# Altium integrated library Xilinx Virtex-E.IntLib: 288 symbols (part 63 of 73)
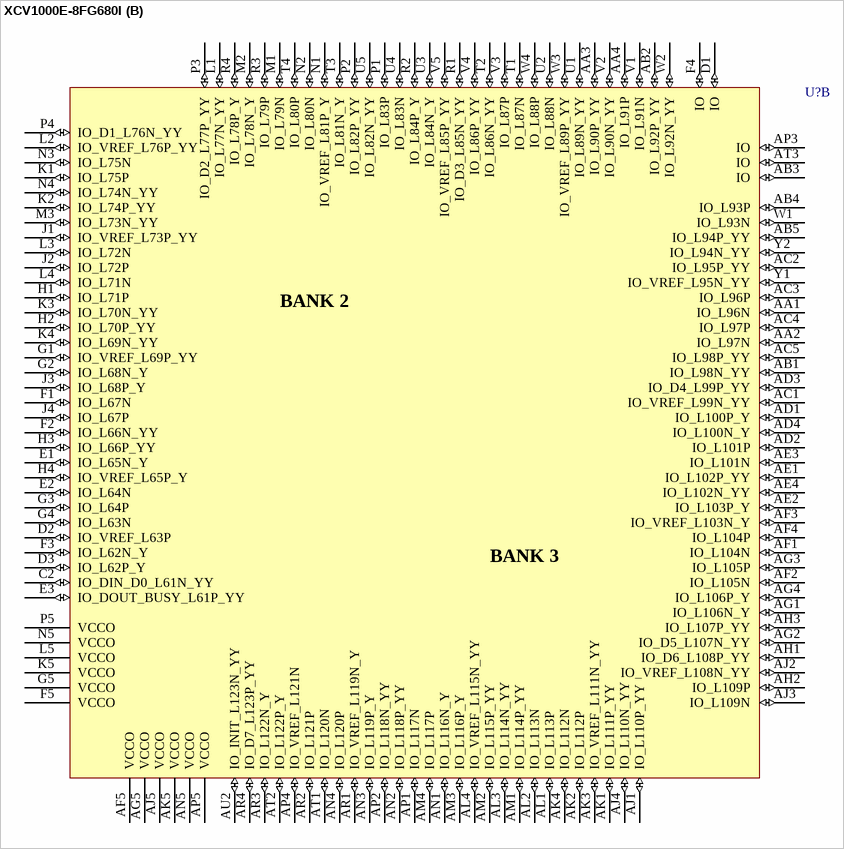
[diagram p449: symbol XCV1000E-8FG680I]

## XCV1600E-7BG560C
designator U?
Virtex-E 1.8V FPGA, 560-Ball BGA, Commercial Grade; PackageDocument: ver1.1, Apr-2001; Note: Solder pads are defined by the copper, i.e. non-soldermask defined (NSMD); Published: 19-Sep-2001; LatestRevisionDate: 17-Jul-2002; LatestRevisionNote: Re-released for DXP Platform.; DatasheetDocument: Mar-2003; PackageReference: BG560; Publisher: Altium Limited
footprint BG560 (560-Ball Metal Ball Grid Array (BG560))
3D model XCV1600E-BG560 (560-Ball Metal Ball Grid Array (BG560))
signal-integrity model XCV1600E_BG560 (Virtex-E)
part A pins: A2 IO_CS_L44P_YY (io), A3 IO (io), A4 IO_L42N_YY (io), A5 IO_L40N_Y (io), A6 IO_VREF_L38P_YY (io), A8 IO_L36N_Y (io), A9 IO_L34P_Y (io), A10 VCCO (power), A11 IO_L31N_Y (io), A13 IO_L28N_Y (io), A15 IO_L25N_Y (io), A16 VCCO (power), A17 GCK3 (in), A19 IO_VREF_L20N_Y (io), A22 VCCO (power), A23 IO_L13N_YY (io), A25 IO_L10P_YY (io), A26 VCCO (power), A27 IO (io), A28 IO_L6P_Y (io), A30 VCCO (power), A31 IO_L1P_YY (io), B4 IO_L42P_YY (io), B5 IO_L40P_Y (io), B7 IO_L38N_YY (io), B8 IO_L36P_Y (io), B10 IO_L33N_YY (io), B11 IO_L32N_YY (io), B13 VCCO (power), B16 IO_L23N_Y (io), B17 IO_L22P_Y (io), B19 VCCO (power), B20 IO_L18N_Y (io), B21 IO_L16N_YY (io), B22 IO_L14P_YY (io), B24 IO_L11P_YY (io), B25 IO (io), B26 IO_L8P_Y (io), B29 IO_L4P_YY (io), B30 IO_L3N_Y (io), B32 VCCO (power), C3 VCCO (power), C5 IO_L43N_Y (io), C6 IO_L41N_YY (io), C7 IO_L39N_YY (io), C8 IO_L37P_Y (io), C9 IO_L35N_Y (io), C10 IO_L34N_Y (io), C11 IO_L32P_YY (io), C12 IO_L30N_YY (io), C13 IO_L29N_YY (io), C14 IO_L27N_YY (io), C15 IO_L25P_Y (io), C16 IO_L24P_Y (io), C17 IO_VREF_L22N_Y (io), C18 IO_LVDS_DLL_L21N (io), C19 IO_L19P_Y (io), C20 IO_L17P_YY (io), C21 IO_L15P_Y (io), C23 IO_L12P_Y (io), C25 IO_L9N_Y (io), C26 IO_L7P_Y (io), C27 IO_L5P_YY (io), C28 IO (io), C29 IO_L2P_YY (io), C30 IO (io), D6 IO_WRITE_L44N_YY (io), D7 IO_VREF_L41P_YY (io), D8 IO_L39P_YY (io), D9 IO (io), D10 IO_VREF_L35P_Y (io), D11 IO_VREF_L33P_YY (io), D12 IO_L31P_Y (io), D13 IO_VREF_L29P_YY (io), D14 IO_L27P_YY (io), D15 IO_L26N_YY (io), D16 IO_VREF_L23P_Y (io), D17 GCK2 (in), D18 IO_L20P_Y (io), D19 IO_L19N_Y (io), D20 IO_VREF_L17N_YY (io), D21 IO_L15N_Y (io), D22 IO_L13P_YY (io), D23 IO_L11N_YY (io), D24 IO_L9P_Y (io), D25 IO_L7N_Y (io), D26 IO_VREF_L5N_YY (io), D27 IO_L3P_Y (io), D28 IO_L1N_YY (io), D29 IO_VREF_L0P (io), D30 IO (io), E5 VCCO (power), E7 IO_VREF_L43P_Y (io), E8 IO (io), E10 IO_L37N_Y (io), E11 IO (io), E13 IO_L30P_YY (io), E14 IO_L28P_Y (io), E15 IO_VREF_L26P_YY (io), E16 IO_L24N_Y (io), E17 IO_LVDS_DLL_L21P (io), E18 IO_VREF (io), E19 IO_L18P_Y (io), E20 IO_L16P_YY (io), E21 IO_VREF_L14N_YY (io), E22 IO_L12N_Y (io), E23 IO_VREF_L10N_YY (io), E24 IO_VREF_L8N_Y (io), E25 IO_L6N_Y (io), E26 IO_L4N_YY (io), E27 IO_VREF_L2N_YY (io), E28 IO_L0N (io)
part B pins: AA1 IO_L75P_Y (io), AA2 VCCO (power), AA3 IO_L76P_Y (io), AA4 IO_VREF_L76N_Y (io), AA5 IO_L77N_Y (io), AB3 IO_L77P_Y (io), AB4 IO_L78N_Y (io), AB5 IO_D5_L79N_YY (io), AC1 IO_L78P_Y (io), AC3 IO_L79P_YY (io), AC4 IO_D6_L80P_YY (io), AC5 IO_L81N_Y (io), AD1 VCCO (power), AD3 IO_VREF_L80N_YY (io), AD4 IO_L82P_Y (io), AD5 IO_L83N_Y (io), AE1 IO_L81P_Y (io), AE3 IO (io), AE4 IO_L84N_Y (io), AE5 IO_VREF_L85N_YY (io), AF1 IO_VREF_L82N_Y (io), AF2 IO_L83P_Y (io), AF3 IO (io), AF4 IO_L86P_Y (io), AF5 IO_L87N_Y (io), AG2 IO_L84P_Y (io), AG4 IO_L88P_Y (io), AG5 IO_L89N_Y (io), AH1 IO_L85P_YY (io), AH3 IO (io), AH4 IO_VREF_L90N_Y (io), AH5 IO_INIT_L91N_YY (io), AJ1 IO_L86N_Y (io), AJ2 IO_L87P_Y (io), AJ3 IO_L89P_Y (io), AJ4 IO_D7_L91P_YY (io), AK1 VCCO (power), AK2 IO_VREF_L88N_Y (io), AK3 IO (io), AL1 IO_L90P_Y (io), AL2 VCCO (power), B2 VCCO (power), B3 IO_VREF_L46N_Y (io), C1 IO_L47N_Y (io), D1 VCCO (power), D2 IO_L49P_Y (io), D3 IO (io), D4 IO_DOUT_BUSY_L45P_YY (io), E2 IO_L50N_Y (io), E3 IO_L48N_Y (io), E4 IO_DIN_D0_L45N_YY (io), F1 IO_L52N_Y (io), F3 IO (io), F4 IO_L47P_Y (io), F5 IO_L46P_Y (io), G1 IO (io), G3 IO_L51N_YY (io), G4 IO_L49N_Y (io), G5 IO_VREF_L48P_Y (io), H1 VCCO (power), H2 IO_L54N_Y (io), H3 IO_L53N_Y (io), H4 IO_VREF_L51P_YY (io), H5 IO_L50P_Y (io), J2 IO (io), J3 IO_L55P_Y (io), J4 IO_L53P_Y (io), J5 IO_L52P_Y (io), K2 IO_L57N_YY (io), K3 IO_D1_L56N_YY (io), K4 IO_L55N_Y (io), K5 IO_VREF_L54P_Y (io), L1 IO_L59P_Y (io), L3 IO_L58N_Y (io), L4 IO_D2_L57P_YY (io), L5 IO_VREF_L56P_YY (io), M1 VCCO (power), M2 IO_L60N_Y (io), M4 IO_L59N_Y (io), M5 IO_L58P_Y (io), N2 IO_L62P_Y (io), N3 IO_L61N_Y (io), N4 IO_L61P_Y (io), N5 IO_VREF_L60P_Y (io), P2 IO_L64P_Y (io), P3 IO_D3_L63N_YY (io), P4 IO_VREF_L63P_YY (io), P5 IO_L62N_Y (io), R1 IO_VREF_L66P_Y (io), R2 VCCO (power), R3 IO_L65N_Y (io), R4 IO_L65P_Y (io), R5 IO_L64N_Y (io), T2 IO_L68P_YY (io), T3 IO_VREF_L67N_Y (io), T4 IO_L66N_Y (io), T5 IO_L67P_Y (io), U1 IO_VREF_L69P_Y (io), U2 IO_L69N_Y (io), U3 IO_L68N_YY (io), U4 IO (io), V1 VCCO (power), V2 IO_L70P_Y (io), V3 IO_L71N_Y (io), V4 IO_VREF_L70N_Y (io), V5 IO_L71P_Y (io), W1 IO_L72P_Y (io), W3 IO_L72N_Y (io), W4 IO_D4_L73P_YY (io), W5 IO_VREF_L73N_YY (io), Y3 IO_L74P_Y (io), Y4 IO_L74N_Y (io), Y5 IO_L75N_Y (io)
part C pins: AJ6 IO_L92N_YY (io), AJ7 IO_L94N_YY (io), AJ8 IO (io), AJ9 IO_L98N_YY (io), AJ10 IO_L100N_Y (io), AJ11 IO (io), AJ12 IO_L104N_YY (io), AJ14 IO_L109P_YY (io), AJ15 IO_L111P_Y (io), AJ16 IO_L113N_Y (io), AJ17 GCK1 (in), AJ18 IO_VREF_L116N_Y (io), AJ19 IO_L119P_YY (io), AJ20 IO_L121P_Y (io), AJ21 IO_L123P_YY (io), AJ22 IO_L125N_YY (io), AJ23 IO_L127N_Y (io), AJ24 IO_L129N_Y (io), AJ25 IO_VREF_L131N_YY (io), AJ26 IO_L133N_Y (io), AJ27 IO_L135N_YY (io), AK5 IO_L93P_Y (io), AK6 IO (io), AK7 IO_L96P_Y (io), AK9 IO (io), AK10 IO_L102P_Y (io), AK12 IO_L105N_Y (io), AK13 IO_VREF_L107P_YY (io), AK14 IO_L109N_YY (io), AK15 IO_L111N_Y (io), AK16 IO_L114P_Y (io), AK18 IO_L116P_Y (io), AK19 IO_L118P_Y (io), AK21 IO_L122P_YY (io), AK22 IO_L124P_Y (io), AK23 IO_L126P_YY (io), AK24 IO_L128P_Y (io), AK25 IO_L130N_Y (io), AK26 IO_L132P_YY (io), AK27 IO_L134P_YY (io), AK28 IO_VREF_L136N_Y (io), AL4 IO_L92P_YY (io), AL5 IO_L94P_YY (io), AL6 IO_L96N_Y (io), AL7 IO_VREF_L98P_YY (io), AL8 IO_L99N_Y (io), AL9 IO_VREF_L101P_Y (io), AL10 IO_VREF_L103P_YY (io), AL11 IO_L104P_YY (io), AL12 IO_L106P_YY (io), AL13 IO_L107N_YY (io), AL15 IO_L112P_Y (io), AL16 IO_VREF_L113P_Y (io), AL17 GCK0 (in), AL18 IO_VREF (io), AL19 IO_L117N_Y (io), AL20 IO_VREF_L119N_YY (io), AL21 IO_L120N_YY (io), AL23 IO_L125P_YY (io), AL24 IO_VREF_L126N_YY (io), AL25 IO (io), AL26 IO_L130P_Y (io), AL28 IO (io), AL29 IO_VREF_L134N_YY (io), AL30 IO (io), AL31 VCCO (power), AM2 VCCO (power), AM4 IO_VREF_L95P_YY (io), AM5 IO_L95N_YY (io), AM6 IO_L97P_YY (io), AM8 IO_L100P_Y (io), AM9 IO_L101N_Y (io), AM10 IO_L103N_YY (io), AM12 IO_L106N_YY (io), AM13 IO_L108P_Y (io), AM14 IO_VREF_L110P_YY (io), AM15 VCCO (power), AM16 IO_L112N_Y (io), AM17 IO_LVDS_DLL_L115P (io), AM18 IO_LVDS_DLL_L115N (io), AM20 IO_L118N_Y (io), AM21 VCCO (power), AM22 IO_L121N_Y (io), AM23 IO_L123N_YY (io), AM24 IO_L124N_Y (io), AM26 IO_VREF_L128N_Y (io), AM27 IO_L129P_Y (io), AM29 IO_L132N_YY (io), AM30 IO_L133P_Y (io), AM31 IO_L136P_Y (io), AN3 IO_VREF_L93N_Y (io), AN4 VCCO (power), AN6 IO_L97N_YY (io), AN7 IO_L99P_Y (io), AN8 VCCO (power), AN9 IO_L102N_Y (io), AN11 IO_L105P_Y (io), AN12 VCCO (power), AN13 IO_L108N_Y (io), AN15 IO_L110N_YY (io), AN17 IO_VREF_L114N_Y (io), AN18 VCCO (power), AN19 IO_L117P_Y (io), AN21 IO_L120P_YY (io), AN23 IO_VREF_L122N_YY (io), AN24 VCCO (power), AN26 IO_L127P_Y (io), AN28 IO (io), AN29 IO_L131P_YY (io), AN30 VCCO (power), AN31 IO_L135P_YY (io)
part D pins: AA29 IO_L151P_Y (io), AA30 IO_VREF_L152N_Y (io), AA31 IO_L152P_Y (io), AA32 IO_L153N_Y (io), AA33 IO_L154N_Y (io), AB29 IO_L149N_YY (io), AB30 IO_L150P_Y (io), AB31 IO_L151N_Y (io), AB33 VCCO (power), AC29 IO_L147P_Y (io), AC30 IO_L148P_YY (io), AC31 IO_L149P_YY (io), AC33 IO_L150N_Y (io), AD29 IO_L145N_Y (io), AD30 IO_L146P_Y (io), AD31 IO_VREF_L148N_YY (io), AE29 IO_VREF_L143N_YY (io), AE30 IO_L144P_Y (io), AE31 IO_VREF_L146N_Y (io), AE32 IO_L147N_Y (io), AE33 IO (io), AF29 IO_L141P_Y (io), AF30 IO_L142P_Y (io), AF31 IO (io), AF32 IO_L145P_Y (io), AF33 VCCO (power), AG29 IO_L139N_Y (io), AG30 IO_L140P_Y (io), AG33 IO_L144N_Y (io), AH29 IO_L137N_YY (io), AH30 IO_VREF_L138P_Y (io), AH31 IO_L141N_Y (io), AH32 IO_L142N_Y (io), AH33 IO_L143P_YY (io), AJ30 IO_L137P_YY (io), AJ31 IO_L139P_Y (io), AJ32 IO (io), AK31 IO_L138N_Y (io), AK32 IO_VREF_L140N_Y (io), AK33 VCCO (power), AL33 IO (io), AM32 VCCO (power), C32 VCCO (power), C33 IO_L181P_Y (io), D31 IO_VREF_L182P_Y (io), D32 IO_L180N_Y (io), D33 VCCO (power), E30 IO (io), E31 IO_VREF_L180P_Y (io), E32 IO_L178P_Y (io), E33 IO_L178N_Y (io), F29 IO (io), F30 IO_L182N_Y (io), F31 IO_L179P_Y (io), F33 IO (io), G29 IO_L181N_Y (io), G30 IO (io), G31 IO_VREF_L177P_YY (io), G32 IO_L176P_Y (io), H29 IO_L179N_Y (io), H31 IO_L175P_Y (io), H32 IO_VREF_L174P_Y (io), H33 IO_L173P_Y (io), J29 IO_L177N_YY (io), J30 IO_L176N_Y (io), J31 IO_L174N_Y (io), J33 IO_L171P_YY (io), K29 IO_L175N_Y (io), K30 IO (io), K31 IO_VREF_L172P_YY (io), K33 VCCO (power), L29 IO_L173N_Y (io), L30 IO_L172N_YY (io), L31 IO_L170P_Y (io), L32 IO_L169P_Y (io), L33 IO_VREF_L168P_Y (io), M29 IO_L171N_YY (io), M30 IO_L170N_Y (io), M31 IO_L169N_Y (io), M32 IO_L167N_Y (io), N30 IO_L168N_Y (io), N31 IO_L167P_Y (io), N32 VCCO (power), P29 IO_L166P_Y (io), P30 IO_L166N_Y (io), P31 IO_VREF_L165P_YY (io), P32 IO_L165N_YY (io), R29 IO_L164P_Y (io), R30 IO_L164N_Y (io), R31 IO_L163P_Y (io), R33 IO_L163N_Y (io), T29 IO_L162N_Y (io), T30 IO_L161P_Y (io), T31 IO_VREF_L162P_Y (io), T32 IO_VREF_L161N_Y (io), T33 VCCO (power), U29 IO (io), U31 IO_L160N_YY (io), U32 IO_L160P_YY (io), U33 IO_VREF_L159P_Y (io), V29 IO_VREF_L158N_Y (io), V30 IO_L157P_Y (io), V31 IO_L158P_Y (io), V32 IO_L159N_Y (io), W29 IO_L155P_YY (io), W30 IO_L156N_Y (io), W31 IO_L156P_Y (io), W32 VCCO (power), W33 IO_L157N_Y (io), Y29 IO_L153P_Y (io), Y30 IO_L154P_Y (io), Y32 IO_VREF_L155N_YY (io)
part E pins: A1 GND (power), A7 GND (power), A12 GND (power), A14 GND (power), A18 GND (power), A20 GND (power), A21 VCCINT (power), A24 GND (power), A29 GND (power), A32 GND (power), A33 GND (power), AB1 GND (power), AB2 VCCINT (power), AB32 VCCINT (power), AC2 NC, AC32 GND (power), AD2 VCCINT (power), AD32 VCCINT (power), AD33 GND (power), AE2 GND (power), AG1 GND (power), AG3 VCCINT (power), AG31 VCCINT (power), AG32 GND (power), AH2 GND (power), AJ5 DONE (io), AJ13 VCCINT (power), AJ28 DXP, AJ29 M0 (in), AJ33 GND (power), AK4 NC, AK8 VCCINT (power), AK11 VCCINT (power), AK17 VCCINT (power), AK20 VCCINT (power), AK29 DXN, AK30 M1 (in), AL3 NC, AL14 VCCINT (power), AL22 VCCINT (power), AL27 VCCINT (power), AL32 GND (power), AM1 PROGRAM (in), AM3 GND (power), AM7 GND (power), AM11 GND (power), AM19 GND (power), AM25 GND (power), AM28 GND (power), AM33 GND (power), AN1 GND (power), AN2 GND (power), AN5 GND (power), AN10 GND (power), AN14 GND (power), AN16 GND (power), AN20 GND (power), AN22 GND (power), AN25 VCCINT (power), AN27 GND (power), AN32 M2 (in), AN33 GND (power), B1 GND (power), B6 GND (power), B9 GND (power), B12 VCCINT (power), B14 VCCINT (power), B15 GND (power), B18 VCCINT (power), B23 GND (power), B27 GND (power), B28 VCCINT (power), B31 GND (power), B33 TMS (in), C2 GND (power), C4 CCLK (io), C22 VCCINT (power), C24 VCCINT (power), C31 NC, D5 TDI (in), E1 GND (power), E6 TDO (out), E9 VCCINT (power), E12 VCCINT (power), E29 TCK (in), F2 VCCINT (power), F32 GND (power), G2 GND (power), G33 GND (power), H30 VCCINT (power), J1 VCCINT (power), J32 GND (power), K1 GND (power), K32 VCCINT (power), L2 GND (power), M3 VCCINT (power), M33 GND (power), N1 VCCINT (power), N29 VCCINT (power), N33 VCCINT (power), P1 GND (power), P33 GND (power), R32 GND (power), T1 GND (power), U5 VCCINT (power), U30 VCCINT (power), V33 GND (power), W2 GND (power), Y1 GND (power), Y2 VCCINT (power), Y31 VCCINT (power), Y33 GND (power)
part A text: BANK 0; BANK 1
part B text: BANK 2; BANK 3
part C text: BANK 4; BANK 5
part D text: BANK 6; BANK 7

## XCV1600E-7BG560I
designator U?
Virtex-E 1.8V FPGA, 560-Ball BGA, Industrial Grade; PackageDocument: ver1.1, Apr-2001; Note: Solder pads are defined by the copper, i.e. non-soldermask defined (NSMD); Published: 19-Sep-2001; LatestRevisionDate: 17-Jul-2002; LatestRevisionNote: Re-released for DXP Platform.; DatasheetDocument: Mar-2003; PackageReference: BG560; Publisher: Altium Limited
footprint BG560 (560-Ball Metal Ball Grid Array (BG560))
3D model XCV1600E-BG560 (560-Ball Metal Ball Grid Array (BG560))
signal-integrity model XCV1600E_BG560 (Virtex-E)
part A pins: A2 IO_CS_L44P_YY (io), A3 IO (io), A4 IO_L42N_YY (io), A5 IO_L40N_Y (io), A6 IO_VREF_L38P_YY (io), A8 IO_L36N_Y (io), A9 IO_L34P_Y (io), A10 VCCO (power), A11 IO_L31N_Y (io), A13 IO_L28N_Y (io), A15 IO_L25N_Y (io), A16 VCCO (power), A17 GCK3 (in), A19 IO_VREF_L20N_Y (io), A22 VCCO (power), A23 IO_L13N_YY (io), A25 IO_L10P_YY (io), A26 VCCO (power), A27 IO (io), A28 IO_L6P_Y (io), A30 VCCO (power), A31 IO_L1P_YY (io), B4 IO_L42P_YY (io), B5 IO_L40P_Y (io), B7 IO_L38N_YY (io), B8 IO_L36P_Y (io), B10 IO_L33N_YY (io), B11 IO_L32N_YY (io), B13 VCCO (power), B16 IO_L23N_Y (io), B17 IO_L22P_Y (io), B19 VCCO (power), B20 IO_L18N_Y (io), B21 IO_L16N_YY (io), B22 IO_L14P_YY (io), B24 IO_L11P_YY (io), B25 IO (io), B26 IO_L8P_Y (io), B29 IO_L4P_YY (io), B30 IO_L3N_Y (io), B32 VCCO (power), C3 VCCO (power), C5 IO_L43N_Y (io), C6 IO_L41N_YY (io), C7 IO_L39N_YY (io), C8 IO_L37P_Y (io), C9 IO_L35N_Y (io), C10 IO_L34N_Y (io), C11 IO_L32P_YY (io), C12 IO_L30N_YY (io), C13 IO_L29N_YY (io), C14 IO_L27N_YY (io), C15 IO_L25P_Y (io), C16 IO_L24P_Y (io), C17 IO_VREF_L22N_Y (io), C18 IO_LVDS_DLL_L21N (io), C19 IO_L19P_Y (io), C20 IO_L17P_YY (io), C21 IO_L15P_Y (io), C23 IO_L12P_Y (io), C25 IO_L9N_Y (io), C26 IO_L7P_Y (io), C27 IO_L5P_YY (io), C28 IO (io), C29 IO_L2P_YY (io), C30 IO (io), D6 IO_WRITE_L44N_YY (io), D7 IO_VREF_L41P_YY (io), D8 IO_L39P_YY (io), D9 IO (io), D10 IO_VREF_L35P_Y (io), D11 IO_VREF_L33P_YY (io), D12 IO_L31P_Y (io), D13 IO_VREF_L29P_YY (io), D14 IO_L27P_YY (io), D15 IO_L26N_YY (io), D16 IO_VREF_L23P_Y (io), D17 GCK2 (in), D18 IO_L20P_Y (io), D19 IO_L19N_Y (io), D20 IO_VREF_L17N_YY (io), D21 IO_L15N_Y (io), D22 IO_L13P_YY (io), D23 IO_L11N_YY (io), D24 IO_L9P_Y (io), D25 IO_L7N_Y (io), D26 IO_VREF_L5N_YY (io), D27 IO_L3P_Y (io), D28 IO_L1N_YY (io), D29 IO_VREF_L0P (io), D30 IO (io), E5 VCCO (power), E7 IO_VREF_L43P_Y (io), E8 IO (io), E10 IO_L37N_Y (io), E11 IO (io), E13 IO_L30P_YY (io), E14 IO_L28P_Y (io), E15 IO_VREF_L26P_YY (io), E16 IO_L24N_Y (io), E17 IO_LVDS_DLL_L21P (io), E18 IO_VREF (io), E19 IO_L18P_Y (io), E20 IO_L16P_YY (io), E21 IO_VREF_L14N_YY (io), E22 IO_L12N_Y (io), E23 IO_VREF_L10N_YY (io), E24 IO_VREF_L8N_Y (io), E25 IO_L6N_Y (io), E26 IO_L4N_YY (io), E27 IO_VREF_L2N_YY (io), E28 IO_L0N (io)
part B pins: AA1 IO_L75P_Y (io), AA2 VCCO (power), AA3 IO_L76P_Y (io), AA4 IO_VREF_L76N_Y (io), AA5 IO_L77N_Y (io), AB3 IO_L77P_Y (io), AB4 IO_L78N_Y (io), AB5 IO_D5_L79N_YY (io), AC1 IO_L78P_Y (io), AC3 IO_L79P_YY (io), AC4 IO_D6_L80P_YY (io), AC5 IO_L81N_Y (io), AD1 VCCO (power), AD3 IO_VREF_L80N_YY (io), AD4 IO_L82P_Y (io), AD5 IO_L83N_Y (io), AE1 IO_L81P_Y (io), AE3 IO (io), AE4 IO_L84N_Y (io), AE5 IO_VREF_L85N_YY (io), AF1 IO_VREF_L82N_Y (io), AF2 IO_L83P_Y (io), AF3 IO (io), AF4 IO_L86P_Y (io), AF5 IO_L87N_Y (io), AG2 IO_L84P_Y (io), AG4 IO_L88P_Y (io), AG5 IO_L89N_Y (io), AH1 IO_L85P_YY (io), AH3 IO (io), AH4 IO_VREF_L90N_Y (io), AH5 IO_INIT_L91N_YY (io), AJ1 IO_L86N_Y (io), AJ2 IO_L87P_Y (io), AJ3 IO_L89P_Y (io), AJ4 IO_D7_L91P_YY (io), AK1 VCCO (power), AK2 IO_VREF_L88N_Y (io), AK3 IO (io), AL1 IO_L90P_Y (io), AL2 VCCO (power), B2 VCCO (power), B3 IO_VREF_L46N_Y (io), C1 IO_L47N_Y (io), D1 VCCO (power), D2 IO_L49P_Y (io), D3 IO (io), D4 IO_DOUT_BUSY_L45P_YY (io), E2 IO_L50N_Y (io), E3 IO_L48N_Y (io), E4 IO_DIN_D0_L45N_YY (io), F1 IO_L52N_Y (io), F3 IO (io), F4 IO_L47P_Y (io), F5 IO_L46P_Y (io), G1 IO (io), G3 IO_L51N_YY (io), G4 IO_L49N_Y (io), G5 IO_VREF_L48P_Y (io), H1 VCCO (power), H2 IO_L54N_Y (io), H3 IO_L53N_Y (io), H4 IO_VREF_L51P_YY (io), H5 IO_L50P_Y (io), J2 IO (io), J3 IO_L55P_Y (io), J4 IO_L53P_Y (io), J5 IO_L52P_Y (io), K2 IO_L57N_YY (io), K3 IO_D1_L56N_YY (io), K4 IO_L55N_Y (io), K5 IO_VREF_L54P_Y (io), L1 IO_L59P_Y (io), L3 IO_L58N_Y (io), L4 IO_D2_L57P_YY (io), L5 IO_VREF_L56P_YY (io), M1 VCCO (power), M2 IO_L60N_Y (io), M4 IO_L59N_Y (io), M5 IO_L58P_Y (io), N2 IO_L62P_Y (io), N3 IO_L61N_Y (io), N4 IO_L61P_Y (io), N5 IO_VREF_L60P_Y (io), P2 IO_L64P_Y (io), P3 IO_D3_L63N_YY (io), P4 IO_VREF_L63P_YY (io), P5 IO_L62N_Y (io), R1 IO_VREF_L66P_Y (io), R2 VCCO (power), R3 IO_L65N_Y (io), R4 IO_L65P_Y (io), R5 IO_L64N_Y (io), T2 IO_L68P_YY (io), T3 IO_VREF_L67N_Y (io), T4 IO_L66N_Y (io), T5 IO_L67P_Y (io), U1 IO_VREF_L69P_Y (io), U2 IO_L69N_Y (io), U3 IO_L68N_YY (io), U4 IO (io), V1 VCCO (power), V2 IO_L70P_Y (io), V3 IO_L71N_Y (io), V4 IO_VREF_L70N_Y (io), V5 IO_L71P_Y (io), W1 IO_L72P_Y (io), W3 IO_L72N_Y (io), W4 IO_D4_L73P_YY (io), W5 IO_VREF_L73N_YY (io), Y3 IO_L74P_Y (io), Y4 IO_L74N_Y (io), Y5 IO_L75N_Y (io)
part C pins: AJ6 IO_L92N_YY (io), AJ7 IO_L94N_YY (io), AJ8 IO (io), AJ9 IO_L98N_YY (io), AJ10 IO_L100N_Y (io), AJ11 IO (io), AJ12 IO_L104N_YY (io), AJ14 IO_L109P_YY (io), AJ15 IO_L111P_Y (io), AJ16 IO_L113N_Y (io), AJ17 GCK1 (in), AJ18 IO_VREF_L116N_Y (io), AJ19 IO_L119P_YY (io), AJ20 IO_L121P_Y (io), AJ21 IO_L123P_YY (io), AJ22 IO_L125N_YY (io), AJ23 IO_L127N_Y (io), AJ24 IO_L129N_Y (io), AJ25 IO_VREF_L131N_YY (io), AJ26 IO_L133N_Y (io), AJ27 IO_L135N_YY (io), AK5 IO_L93P_Y (io), AK6 IO (io), AK7 IO_L96P_Y (io), AK9 IO (io), AK10 IO_L102P_Y (io), AK12 IO_L105N_Y (io), AK13 IO_VREF_L107P_YY (io), AK14 IO_L109N_YY (io), AK15 IO_L111N_Y (io), AK16 IO_L114P_Y (io), AK18 IO_L116P_Y (io), AK19 IO_L118P_Y (io), AK21 IO_L122P_YY (io), AK22 IO_L124P_Y (io), AK23 IO_L126P_YY (io), AK24 IO_L128P_Y (io), AK25 IO_L130N_Y (io), AK26 IO_L132P_YY (io), AK27 IO_L134P_YY (io), AK28 IO_VREF_L136N_Y (io), AL4 IO_L92P_YY (io), AL5 IO_L94P_YY (io), AL6 IO_L96N_Y (io), AL7 IO_VREF_L98P_YY (io), AL8 IO_L99N_Y (io), AL9 IO_VREF_L101P_Y (io), AL10 IO_VREF_L103P_YY (io), AL11 IO_L104P_YY (io), AL12 IO_L106P_YY (io), AL13 IO_L107N_YY (io), AL15 IO_L112P_Y (io), AL16 IO_VREF_L113P_Y (io), AL17 GCK0 (in), AL18 IO_VREF (io), AL19 IO_L117N_Y (io), AL20 IO_VREF_L119N_YY (io), AL21 IO_L120N_YY (io), AL23 IO_L125P_YY (io), AL24 IO_VREF_L126N_YY (io), AL25 IO (io), AL26 IO_L130P_Y (io), AL28 IO (io), AL29 IO_VREF_L134N_YY (io), AL30 IO (io), AL31 VCCO (power), AM2 VCCO (power), AM4 IO_VREF_L95P_YY (io), AM5 IO_L95N_YY (io), AM6 IO_L97P_YY (io), AM8 IO_L100P_Y (io), AM9 IO_L101N_Y (io), AM10 IO_L103N_YY (io), AM12 IO_L106N_YY (io), AM13 IO_L108P_Y (io), AM14 IO_VREF_L110P_YY (io), AM15 VCCO (power), AM16 IO_L112N_Y (io), AM17 IO_LVDS_DLL_L115P (io), AM18 IO_LVDS_DLL_L115N (io), AM20 IO_L118N_Y (io), AM21 VCCO (power), AM22 IO_L121N_Y (io), AM23 IO_L123N_YY (io), AM24 IO_L124N_Y (io), AM26 IO_VREF_L128N_Y (io), AM27 IO_L129P_Y (io), AM29 IO_L132N_YY (io), AM30 IO_L133P_Y (io), AM31 IO_L136P_Y (io), AN3 IO_VREF_L93N_Y (io), AN4 VCCO (power), AN6 IO_L97N_YY (io), AN7 IO_L99P_Y (io), AN8 VCCO (power), AN9 IO_L102N_Y (io), AN11 IO_L105P_Y (io), AN12 VCCO (power), AN13 IO_L108N_Y (io), AN15 IO_L110N_YY (io), AN17 IO_VREF_L114N_Y (io), AN18 VCCO (power), AN19 IO_L117P_Y (io), AN21 IO_L120P_YY (io), AN23 IO_VREF_L122N_YY (io), AN24 VCCO (power), AN26 IO_L127P_Y (io), AN28 IO (io), AN29 IO_L131P_YY (io), AN30 VCCO (power), AN31 IO_L135P_YY (io)
part D pins: AA29 IO_L151P_Y (io), AA30 IO_VREF_L152N_Y (io), AA31 IO_L152P_Y (io), AA32 IO_L153N_Y (io), AA33 IO_L154N_Y (io), AB29 IO_L149N_YY (io), AB30 IO_L150P_Y (io), AB31 IO_L151N_Y (io), AB33 VCCO (power), AC29 IO_L147P_Y (io), AC30 IO_L148P_YY (io), AC31 IO_L149P_YY (io), AC33 IO_L150N_Y (io), AD29 IO_L145N_Y (io), AD30 IO_L146P_Y (io), AD31 IO_VREF_L148N_YY (io), AE29 IO_VREF_L143N_YY (io), AE30 IO_L144P_Y (io), AE31 IO_VREF_L146N_Y (io), AE32 IO_L147N_Y (io), AE33 IO (io), AF29 IO_L141P_Y (io), AF30 IO_L142P_Y (io), AF31 IO (io), AF32 IO_L145P_Y (io), AF33 VCCO (power), AG29 IO_L139N_Y (io), AG30 IO_L140P_Y (io), AG33 IO_L144N_Y (io), AH29 IO_L137N_YY (io), AH30 IO_VREF_L138P_Y (io), AH31 IO_L141N_Y (io), AH32 IO_L142N_Y (io), AH33 IO_L143P_YY (io), AJ30 IO_L137P_YY (io), AJ31 IO_L139P_Y (io), AJ32 IO (io), AK31 IO_L138N_Y (io), AK32 IO_VREF_L140N_Y (io), AK33 VCCO (power), AL33 IO (io), AM32 VCCO (power), C32 VCCO (power), C33 IO_L181P_Y (io), D31 IO_VREF_L182P_Y (io), D32 IO_L180N_Y (io), D33 VCCO (power), E30 IO (io), E31 IO_VREF_L180P_Y (io), E32 IO_L178P_Y (io), E33 IO_L178N_Y (io), F29 IO (io), F30 IO_L182N_Y (io), F31 IO_L179P_Y (io), F33 IO (io), G29 IO_L181N_Y (io), G30 IO (io), G31 IO_VREF_L177P_YY (io), G32 IO_L176P_Y (io), H29 IO_L179N_Y (io), H31 IO_L175P_Y (io), H32 IO_VREF_L174P_Y (io), H33 IO_L173P_Y (io), J29 IO_L177N_YY (io), J30 IO_L176N_Y (io), J31 IO_L174N_Y (io), J33 IO_L171P_YY (io), K29 IO_L175N_Y (io), K30 IO (io), K31 IO_VREF_L172P_YY (io), K33 VCCO (power), L29 IO_L173N_Y (io), L30 IO_L172N_YY (io), L31 IO_L170P_Y (io), L32 IO_L169P_Y (io), L33 IO_VREF_L168P_Y (io), M29 IO_L171N_YY (io), M30 IO_L170N_Y (io), M31 IO_L169N_Y (io), M32 IO_L167N_Y (io), N30 IO_L168N_Y (io), N31 IO_L167P_Y (io), N32 VCCO (power), P29 IO_L166P_Y (io), P30 IO_L166N_Y (io), P31 IO_VREF_L165P_YY (io), P32 IO_L165N_YY (io), R29 IO_L164P_Y (io), R30 IO_L164N_Y (io), R31 IO_L163P_Y (io), R33 IO_L163N_Y (io), T29 IO_L162N_Y (io), T30 IO_L161P_Y (io), T31 IO_VREF_L162P_Y (io), T32 IO_VREF_L161N_Y (io), T33 VCCO (power), U29 IO (io), U31 IO_L160N_YY (io), U32 IO_L160P_YY (io), U33 IO_VREF_L159P_Y (io), V29 IO_VREF_L158N_Y (io), V30 IO_L157P_Y (io), V31 IO_L158P_Y (io), V32 IO_L159N_Y (io), W29 IO_L155P_YY (io), W30 IO_L156N_Y (io), W31 IO_L156P_Y (io), W32 VCCO (power), W33 IO_L157N_Y (io), Y29 IO_L153P_Y (io), Y30 IO_L154P_Y (io), Y32 IO_VREF_L155N_YY (io)
part E pins: A1 GND (power), A7 GND (power), A12 GND (power), A14 GND (power), A18 GND (power), A20 GND (power), A21 VCCINT (power), A24 GND (power), A29 GND (power), A32 GND (power), A33 GND (power), AB1 GND (power), AB2 VCCINT (power), AB32 VCCINT (power), AC2 NC, AC32 GND (power), AD2 VCCINT (power), AD32 VCCINT (power), AD33 GND (power), AE2 GND (power), AG1 GND (power), AG3 VCCINT (power), AG31 VCCINT (power), AG32 GND (power), AH2 GND (power), AJ5 DONE (io), AJ13 VCCINT (power), AJ28 DXP, AJ29 M0 (in), AJ33 GND (power), AK4 NC, AK8 VCCINT (power), AK11 VCCINT (power), AK17 VCCINT (power), AK20 VCCINT (power), AK29 DXN, AK30 M1 (in), AL3 NC, AL14 VCCINT (power), AL22 VCCINT (power), AL27 VCCINT (power), AL32 GND (power), AM1 PROGRAM (in), AM3 GND (power), AM7 GND (power), AM11 GND (power), AM19 GND (power), AM25 GND (power), AM28 GND (power), AM33 GND (power), AN1 GND (power), AN2 GND (power), AN5 GND (power), AN10 GND (power), AN14 GND (power), AN16 GND (power), AN20 GND (power), AN22 GND (power), AN25 VCCINT (power), AN27 GND (power), AN32 M2 (in), AN33 GND (power), B1 GND (power), B6 GND (power), B9 GND (power), B12 VCCINT (power), B14 VCCINT (power), B15 GND (power), B18 VCCINT (power), B23 GND (power), B27 GND (power), B28 VCCINT (power), B31 GND (power), B33 TMS (in), C2 GND (power), C4 CCLK (io), C22 VCCINT (power), C24 VCCINT (power), C31 NC, D5 TDI (in), E1 GND (power), E6 TDO (out), E9 VCCINT (power), E12 VCCINT (power), E29 TCK (in), F2 VCCINT (power), F32 GND (power), G2 GND (power), G33 GND (power), H30 VCCINT (power), J1 VCCINT (power), J32 GND (power), K1 GND (power), K32 VCCINT (power), L2 GND (power), M3 VCCINT (power), M33 GND (power), N1 VCCINT (power), N29 VCCINT (power), N33 VCCINT (power), P1 GND (power), P33 GND (power), R32 GND (power), T1 GND (power), U5 VCCINT (power), U30 VCCINT (power), V33 GND (power), W2 GND (power), Y1 GND (power), Y2 VCCINT (power), Y31 VCCINT (power), Y33 GND (power)
part A text: BANK 0; BANK 1
part B text: BANK 2; BANK 3
part C text: BANK 4; BANK 5
part D text: BANK 6; BANK 7

## XCV1600E-7FG680C
designator U?
Virtex-E 1.8V FPGA, 680-Ball FBGA, Commercial Grade; PackageDocument: ver1.1, Apr-2001; Note: Solder pads are defined by the copper, i.e. non-soldermask defined (NSMD); Published: 19-Sep-2001; LatestRevisionDate: 17-Jul-2002; LatestRevisionNote: Re-released for DXP Platform.; DatasheetDocument: Mar-2003; PackageReference: FG680; Publisher: Altium Limited
footprint FG680 (680-Ball Fine Pitch Ball Grid Array (FG680))
3D model XCV1600E-FG680 (680-Ball Fine Pitch Ball Grid Array (FG680))
signal-integrity model XCV1600E_FG680 (Virtex-E)
part A pins: A4 IO_L59P_Y (io), A5 IO_L57P_YY (io), A6 IO_L55P_Y (io), A7 IO_L53P_YY (io), A8 IO_L52N_YY (io), A9 IO_L50N_Y (io), A10 IO_L48N_YY (io), A11 IO_L46N_Y (io), A12 IO_L43P_Y (io), A13 IO_L41P_YY (io), A14 IO_L40N_YY (io), A15 IO_L38N_Y (io), A16 IO_L35P_Y (io), A17 IO_L33P_YY (io), A18 IO_L31P_Y (io), A19 IO_LVDS_DLL_L29P (io), A20 GCK3 (in), A21 IO_L27P_YY (io), A22 IO_L25P_Y (io), A23 IO_L23P_YY (io), A24 IO_L22N_YY (io), A25 IO_L21N_Y (io), A26 IO_VREF_L19N_YY (io), A27 IO_L16N_Y (io), A28 IO_L14P_YY (io), A29 IO_L13N_Y (io), A30 IO_L12N_Y (io), A31 IO_L10N_YY (io), A32 IO_L9N_Y (io), A33 IO_VREF_L7N_YY (io), A34 IO_L4P (io), A35 IO_L2P_YY (io), A36 IO_L0P_Y (io), B4 IO_WRITE_L60N_YY (io), B5 IO_VREF_L58P_Y (io), B6 IO_VREF_L56P_YY (io), B7 IO_L54P_Y (io), B8 IO_VREF_L52P_YY (io), B9 IO_L51N_Y (io), B10 IO_L49N_YY (io), B11 IO_L47N_Y (io), B12 IO_L45N_YY (io), B13 IO_L42P_Y (io), B14 IO_VREF_L40P_YY (io), B15 IO_L39N_Y (io), B16 IO_L37N_YY (io), B17 IO_L34P_Y (io), B18 IO_VREF_L32P_YY (io), B19 IO_VREF_L30P_Y (io), B20 IO_L28P_Y (io), B21 IO_L26P_YY (io), B22 IO_L24P_Y (io), B23 IO_L22P_YY (io), B24 IO_L24N_Y (io), B25 IO_L20N_Y (io), B26 IO_L17P_Y (io), B27 IO_L15P_Y (io), B28 IO_VREF_L14N_YY (io), B29 IO_L13P_Y (io), B30 IO_VREF_L11N_YY (io), B31 IO_L8P_Y (io), B32 IO_L8N_Y (io), B33 IO_L5P_Y (io), B34 IO_L3P_YY (io), B35 IO_L1P_Y (io), B36 IO (io), C5 IO (io), C6 IO_L58N_Y (io), C7 IO_L56N_YY (io), C8 IO_L54N_Y (io), C9 IO_L51P_Y (io), C10 IO_L49P_YY (io), C11 IO_L47P_Y (io), C12 IO_L46P_Y (io), C13 IO_L44P_YY (io), C14 IO_L43N_Y (io), C15 IO_L41N_YY (io), C16 IO_L38P_Y (io), C17 IO_L36N_YY (io), C18 IO_L33N_YY (io), C19 IO_L31N_Y (io), C21 IO_L30N_Y (io), C22 IO_LVDS_DLL_L29N (io), C23 IO_VREF_L27N_YY (io), C24 IO_VREF_L23N_YY (io), C25 IO_L20P_Y (io), C26 IO_L18P_YY (io), C27 IO_L17N_YY (io), C28 IO_L15N_YY (io), C29 IO_L12P_Y (io), C30 IO_L10P_YY (io), C31 IO_L7P_YY (io), C32 IO_L6N_YY (io), C33 IO_L4N (io), C34 IO_L2N_YY (io), C35 IO_L0N_Y (io), D5 IO_CS_L60P_YY (io), D6 IO_L59N_Y (io), D7 IO_L57N_YY (io), D8 IO_L55N_Y (io), D9 IO_L53N_YY (io), D10 IO_L50P_Y (io), D11 IO_VREF_L48P_YY (io), D13 IO_VREF_L45P_YY (io), D14 IO_L44N_YY (io), D15 IO_L42N_Y (io), D16 IO_L39P_Y (io), D17 IO_VREF_L36P_YY (io), D18 IO_L34N_Y (io), D19 IO_L32N_YY (io), D21 GCK2 (in), D22 IO_VREF (io), D23 IO_L26N_YY (io), D24 IO_L21P_Y (io), D25 IO_L19P_YY (io), D26 IO_L18N_YY (io), D27 IO_L16N_Y (io), D29 IO_L11P_YY (io), D30 IO_L9P_Y (io), D31 IO_L6P_YY (io), D32 IO_L5N_Y (io), D33 IO_VREF_L3N_YY (io), D34 IO_VREF_L1N_Y (io), D35 IO (io), E6 VCCO (power), E7 VCCO (power), E10 VCCO (power), E11 VCCO (power), E13 VCCO (power), E14 VCCO (power), E17 IO_L37P_YY (io), E18 IO_L35N_Y (io), E22 IO_L28N_Y (io), E23 IO_L25N_Y (io), E26 VCCO (power), E27 VCCO (power), E29 VCCO (power), E30 VCCO (power), E33 VCCO (power), E34 VCCO (power)
part B pins: AA1 IO_L96N (io), AA2 IO_L97N (io), AA3 IO_L90P_YY (io), AA4 IO_VREF_L91P (io), AB1 IO_L98N_YY (io), AB2 IO_L92P_YY (io), AB3 IO (io), AB4 IO_L93P (io), AB5 IO_L94P_YY (io), AC1 IO_VREF_L99N_YY (io), AC2 IO_L95P_YY (io), AC3 IO_L96P (io), AC4 IO_L97P (io), AC5 IO_L98P_YY (io), AD1 IO_L100P_Y (io), AD2 IO_L101P (io), AD3 IO_D4_L99P_YY (io), AD4 IO_L100N_Y (io), AE1 IO_L102P_YY (io), AE2 IO_L103P_Y (io), AE3 IO_L101N (io), AE4 IO_L102N_YY (io), AF1 IO_L104N (io), AF2 IO_L105N (io), AF3 IO_VREF_L103N_Y (io), AF4 IO_L104P (io), AF5 VCCO (power), AG1 IO_L106N_Y (io), AG2 IO_D5_L107N_YY (io), AG3 IO_L105P (io), AG4 IO_L106P_Y (io), AG5 VCCO (power), AH1 IO_D6_L108P_YY (io), AH2 IO_L109P (io), AH3 IO_L107P_YY (io), AJ1 IO_L110P_YY (io), AJ2 IO_VREF_L108N_YY (io), AJ3 IO_L109N (io), AJ4 IO_L110N_YY (io), AJ5 VCCO (power), AK1 IO_L111P_YY (io), AK2 IO_L112P (io), AK3 IO_VREF_L111N_YY (io), AK4 IO_L112N (io), AK5 VCCO (power), AL1 IO_L113P (io), AL2 IO_L113N (io), AL3 IO_L114N_YY (io), AL4 IO_VREF_L115N_YY (io), AM1 IO_L114P_YY (io), AM2 IO_L115P_YY (io), AM3 IO_L116P_Y (io), AM4 IO_L117P (io), AN1 IO_L116N_Y (io), AN2 IO_L118P_YY (io), AN3 IO_L119P_Y (io), AN4 IO_L120P (io), AN5 VCCO (power), AP1 IO_L117N (io), AP2 IO_L118N_YY (io), AP3 IO (io), AP4 IO_VREF_L121N (io), AP5 VCCO (power), AR1 IO_VREF_L119N_Y (io), AR2 IO_L121P (io), AR3 IO_L122N_Y (io), AR4 IO_D7_L123P_YY (io), AT1 IO_L120N (io), AT2 IO_L122P_Y (io), AT3 IO (io), AU2 IO_INIT_L123N_YY (io), C2 IO_DIN_D0_L61N_YY (io), D1 IO (io), D2 IO_VREF_L63P (io), D3 IO_L62P_Y (io), E1 IO_L65N_Y (io), E2 IO_L64N (io), E3 IO_DOUT_BUSY_L61P_YY (io), F1 IO_L67N (io), F2 IO_L66N_YY (io), F3 IO_L62N_Y (io), F4 IO (io), F5 VCCO (power), G1 IO_VREF_L69P_YY (io), G2 IO_L68N_Y (io), G3 IO_L64P (io), G4 IO_L63N (io), G5 VCCO (power), H1 IO_L71P (io), H2 IO_L70P_YY (io), H3 IO_L66P_YY (io), H4 IO_VREF_L65P_Y (io), J1 IO_VREF_L73P_YY (io), J2 IO_L72P (io), J3 IO_L68P_Y (io), J4 IO_L67P (io), K1 IO_L75P (io), K2 IO_L74P_YY (io), K3 IO_L70N_YY (io), K4 IO_L69N_YY (io), K5 VCCO (power), L1 IO_L77N_YY (io), L2 IO_VREF_L76P_YY (io), L3 IO_L72N (io), L4 IO_L71N (io), L5 VCCO (power), M1 IO_L79N (io), M2 IO_L78N_Y (io), M3 IO_L73N_YY (io), N1 IO_VREF_L81P_Y (io), N2 IO_L80N (io), N3 IO_L75N (io), N4 IO_L74N_YY (io), N5 VCCO (power), P1 IO_L83P (io), P2 IO_L82P_YY (io), P3 IO_D2_L77P_YY (io), P4 IO_D1_L76N_YY (io), P5 VCCO (power), R1 IO_D3_L85N_YY (io), R2 IO_L84P_Y (io), R3 IO_L79P (io), R4 IO_L78P_Y (io), T1 IO_L87N (io), T2 IO_L86N_YY (io), T3 IO_L81N_Y (io), T4 IO_L80P (io), U1 IO_L89N_YY (io), U2 IO_L88N (io), U3 IO_L84N_Y (io), U4 IO_L83N (io), U5 IO_L82N_YY (io), V1 IO_L91N (io), V2 IO_L90N_YY (io), V3 IO_L87P (io), V4 IO_L86P_YY (io), V5 IO_VREF_L85P_YY (io), W1 IO_VREF_L93N (io), W2 IO_L92N_YY (io), W3 IO_VREF_L89P_YY (io), W4 IO_L88P (io), Y1 IO_VREF_L95N_YY (io), Y2 IO_L94N_YY (io)
part C pins: AR6 VCCO (power), AR7 VCCO (power), AR10 VCCO (power), AR11 VCCO (power), AR13 VCCO (power), AR14 VCCO (power), AR17 IO_L146N_Y (io), AR18 IO_L149P_Y (io), AR22 IO_L156N_Y (io), AR23 IO_L160P_Y (io), AR26 VCCO (power), AR27 VCCO (power), AR29 VCCO (power), AR30 VCCO (power), AR33 VCCO (power), AR34 VCCO (power), AT6 IO_L125P_Y (io), AT7 IO_L127P_YY (io), AT8 IO_L129P_Y (io), AT9 IO_L131P_YY (io), AT10 IO_L133N_Y (io), AT11 IO_L135N_YY (io), AT13 IO_L138N_Y (io), AT14 IO_L140P_YY (io), AT15 IO_L142P_Y (io), AT16 IO_L144N_YY (io), AT17 IO_L147N_YY (io), AT18 IO_L150P_Y (io), AT19 IO_VREF_L152P_YY (io), AT21 IO_LVDS_DLL_L155P (io), AT22 IO_LVDS_DLL_L155N (io), AT23 IO_L159P_Y (io), AT24 IO_L163N_Y (io), AT25 IO_VREF_L165N_YY (io), AT26 IO_L168P_Y (io), AT27 IO_VREF_L170N_YY (io), AT29 IO_L174N_YY (io), AT30 IO_L176N_Y (io), AT31 IO_L178P_YY (io), AT32 IO_L181P_YY (io), AT33 IO_L183P_Y (io), AT34 IO (io), AU4 IO_L124P_YY (io), AU6 IO_VREF_L126P_Y (io), AU7 IO_VREF_L128P_YY (io), AU8 IO_L130P_Y (io), AU9 IO_L132N_YY (io), AU10 IO_L134N_Y (io), AU11 IO_L136N_YY (io), AU12 IO_L137N_Y (io), AU13 IO_L139N_YY (io), AU14 IO_L141P_Y (io), AU15 IO_L143P_YY (io), AU16 IO_L145N_Y (io), AU17 IO_VREF_L148P_YY (io), AU18 IO_L151P_YY (io), AU19 IO_L153P_Y (io), AU21 IO_VREF_L154P (io), AU22 GCK1 (in), AU23 IO_L158P_YY (io), AU24 IO_L162N_YY (io), AU25 IO_L164N_Y (io), AU26 IO_L167P_Y (io), AU27 IO_L169P_YY (io), AU28 IO_L171N_Y (io), AU29 IO_VREF_L173N_YY (io), AU30 IO_L175N_Y (io), AU31 IO_VREF_L177N_YY (io), AU32 IO_L180P_Y (io), AU33 IO_L182P_YY (io), AU34 IO_L184P_Y (io), AU36 IO_L184N_Y (io), AV3 IO (io), AV4 IO_L125N_Y (io), AV5 IO_L124N_YY (io), AV6 IO_L128N_YY (io), AV7 IO_L130N_Y (io), AV8 IO_VREF_L132P_YY (io), AV9 IO_L134P_Y (io), AV10 IO_VREF_L136P_YY (io), AV11 IO_L138P_Y (io), AV12 IO_L140N_YY (io), AV13 IO_L142N_Y (io), AV14 IO_VREF_L144P_YY (io), AV15 IO_L146P_Y (io), AV16 IO_L148N_YY (io), AV17 IO_L150N_Y (io), AV18 IO_L152N_YY (io), AV19 IO_L154N (io), AV20 IO_VREF_L156P_Y (io), AV21 IO_L158N_Y (io), AV22 IO_L160N_Y (io), AV23 IO_L157P_YY (io), AV24 IO_L161P_YY (io), AV25 IO_L164P_Y (io), AV26 IO_L166P_YY (io), AV27 IO_L167N_Y (io), AV28 IO_L169N_YY (io), AV29 IO_L172N_Y (io), AV30 IO_L172P_Y (io), AV31 IO_L174P_YY (io), AV32 IO_L179P_Y (io), AV33 IO_L177P_YY (io), AV34 IO_L179N_Y (io), AV35 IO_VREF_L181N_YY (io), AV36 IO_VREF_L183N_Y (io), AW4 IO_L126N_Y (io), AW5 IO_L127N_YY (io), AW6 IO_L129N_Y (io), AW7 IO_L131N_YY (io), AW8 IO_L133P_Y (io), AW9 IO_L135P_YY (io), AW10 IO_L137P_Y (io), AW11 IO_VREF_L139P_YY (io), AW12 IO_L141N_Y (io), AW13 IO_L143N_YY (io), AW14 IO_L145P_Y (io), AW15 IO_L147P_YY (io), AW16 IO_L149N_Y (io), AW17 IO_L151N_YY (io), AW18 IO_L153N_Y (io), AW19 GCK0 (in), AW20 IO (io), AW21 IO_VREF_L157N_YY (io), AW22 IO_L159N_Y (io), AW23 IO_VREF_L161N_YY (io), AW24 IO_L162P_YY (io), AW25 IO_L163P_Y (io), AW26 IO_L165P_YY (io), AW27 IO_L166N_YY (io), AW28 IO_L168N_Y (io), AW29 IO_L170P_YY (io), AW30 IO_L171P_Y (io), AW31 IO_L173P_YY (io), AW32 IO_L175P_Y (io), AW33 IO_L176P_Y (io), AW34 IO_L178N_YY (io), AW35 IO_L180N_Y (io), AW36 IO_L182N_YY (io)
part D pins: AA36 IO_L215P (io), AA37 IO_L216N_YY (io), AA38 IO_L211P (io), AA39 IO_L212P (io), AB35 IO_VREF_L213N_YY (io), AB36 IO_L214N_YY (io), AB37 IO_VREF_L215N (io), AB38 IO_L209P_YY (io), AB39 IO_L210P_YY (io), AC35 IO_L210N_YY (io), AC36 IO_L211N (io), AC37 IO_L212N (io), AC38 IO_L208N_Y (io), AC39 IO_L208P_Y (io), AD36 IO_L207P (io), AD37 IO_VREF_L209N_YY (io), AD38 IO_L206N_YY (io), AD39 IO_L207N (io), AE36 IO_L205P_Y (io), AE37 IO_L206P_YY (io), AE38 IO_L203P (io), AE39 IO_VREF_L205N_Y (io), AF35 VCCO (power), AF36 IO_L203N (io), AF37 IO_L204N (io), AF38 IO_L204P (io), AF39 IO_L202P_Y (io), AG35 VCCO (power), AG36 IO_L201N_YY (io), AG37 IO_L202N_Y (io), AG38 IO_L200P_YY (io), AG39 IO_L201P_YY (io), AH37 IO_L198P_YY (io), AH38 IO_L199P (io), AH39 IO_VREF_L200N_YY (io), AJ35 VCCO (power), AJ36 IO_L196P (io), AJ37 IO_L197P_YY (io), AJ38 IO_L198N_YY (io), AJ39 IO_L199N (io), AK35 VCCO (power), AK36 IO_L194P_YY (io), AK37 IO_L195P (io), AK38 IO_L196N (io), AK39 IO_VREF_L197N_YY (io), AL36 IO_L192P_Y (io), AL37 IO_L193P_YY (io), AL38 IO_L194N_YY (io), AL39 IO_L195N (io), AM36 IO_L191N (io), AM37 IO_L192N_Y (io), AM38 IO_L191P (io), AM39 IO_VREF_L193N_YY (io), AN35 VCCO (power), AN36 IO_VREF_L189N_Y (io), AN37 IO_L190N_YY (io), AN38 IO_L189P_Y (io), AN39 IO_L190P_YY (io), AP35 VCCO (power), AP36 IO_L186P_Y (io), AP37 IO_L187P (io), AP38 IO_L188N (io), AP39 IO_L188P (io), AR36 IO_L185N_YY (io), AR37 IO (io), AR38 IO_L186N_Y (io), AR39 IO (io), AT38 IO_L185P_YY (io), AT39 IO_VREF_L187N (io), B37 IO (io), C38 IO (io), D37 IO_L246N_Y (io), D38 IO_L245N (io), D39 IO_L244P (io), E37 IO_L246P_Y (io), E38 IO_VREF_L243P_Y (io), E39 IO_L242P_YY (io), F35 VCCO (power), F36 IO_VREF_L245P (io), F37 IO (io), F38 IO_L241P (io), F39 IO_L240P_Y (io), G35 VCCO (power), G36 IO_L244N (io), G37 IO_L243N_Y (io), G38 IO_VREF_L239P_YY (io), G39 IO_L239N_YY (io), H36 IO_L242N_YY (io), H37 IO_L241N (io), H38 IO_L238N_YY (io), H39 IO_L237N (io), J36 IO_L240N_Y (io), J37 IO_L238P_YY (io), J38 IO_L236N (io), J39 IO_L235N_YY (io), K35 VCCO (power), K36 IO_L237P (io), K37 IO_L236P (io), K38 IO_L234N_YY (io), K39 IO_L233N (io), L35 VCCO (power), L36 IO_VREF_L235P_YY (io), L37 IO_L234P_YY (io), L38 IO_L232N_YY (io), L39 IO_L230P_Y (io), M37 IO_L233P (io), M38 IO_L229P (io), M39 IO_L228P (io), N35 VCCO (power), N36 IO_VREF_L232P_YY (io), N37 IO_L231P_YY (io), N38 IO_VREF_L227P_Y (io), N39 IO_L227N_Y (io), P35 VCCO (power), P36 IO_L231N_YY (io), P37 IO_L230N_Y (io), P38 IO_L226N_YY (io), P39 IO_L225N (io), R36 IO_L229N (io), R37 IO_L228N (io), R38 IO_L224N_Y (io), R39 IO_L222P_YY (io), T36 IO_L226P_YY (io), T37 IO_L225P (io), T38 IO_L221P (io), T39 IO_L220P (io), U35 IO_L224P_Y (io), U36 IO_VREF_L223P_YY (io), U37 IO_L223N_YY (io), U38 IO_VREF_L219P_YY (io), U39 IO_L218P_YY (io), V35 IO_L222N_YY (io), V36 IO_L221N (io), V37 IO_L220N (io), V38 IO_L219N_YY (io), V39 IO_VREF_L217P (io), W36 IO_L218N_YY (io), W37 IO_L217N (io), W38 IO_L216P_YY (io), W39 IO (io), Y38 IO_L213P_YY (io), Y39 IO_L214P_YY (io)
part E pins: A1 GND (power), A2 GND (power), A3 GND (power), A37 GND (power), A38 GND (power), A39 GND (power), AA5 GND (power), AA35 GND (power), AD5 VCCINT (power), AD35 VCCINT (power), AE5 VCCINT (power), AE35 VCCINT (power), AH4 GND (power), AH5 GND (power), AH35 GND (power), AH36 GND (power), AL5 VCCINT (power), AL35 VCCINT (power), AM5 VCCINT (power), AM35 VCCINT (power), AR5 GND (power), AR8 VCCINT (power), AR9 VCCINT (power), AR12 GND (power), AR15 VCCINT (power), AR16 VCCINT (power), AR19 GND (power), AR20 GND (power), AR21 GND (power), AR24 VCCINT (power), AR25 VCCINT (power), AR28 GND (power), AR31 VCCINT (power), AR32 VCCINT (power), AR35 GND (power), AT4 GND (power), AT5 PROGRAM (in), AT12 GND (power), AT20 GND (power), AT28 GND (power), AT35 M2 (in), AT36 GND (power), AT37 M0 (in), AU1 GND (power), AU3 GND (power), AU5 DONE (io), AU20 GND (power), AU35 DXP, AU37 GND (power), AU38 M1 (in), AU39 GND (power), AV1 GND (power), AV2 GND (power), AV37 DXN, AV38 GND (power), AV39 GND (power), AW1 GND (power), AW2 GND (power), AW3 GND (power), AW37 GND (power), AW38 GND (power), AW39 GND (power), B1 GND (power), B2 GND (power), B3 TDI (in), B38 GND (power), B39 GND (power), C1 GND (power), C3 GND (power), C4 TDO (out), C20 GND (power), C36 TCK (in), C37 GND (power), C39 GND (power), D4 GND (power), D12 GND (power), D20 GND (power), D28 GND (power), D36 GND (power), E4 CCLK (io), E5 GND (power), E8 VCCINT (power), E9 VCCINT (power), E12 GND (power), E15 VCCINT (power), E16 VCCINT (power), E19 GND (power), E20 GND (power), E21 GND (power), E24 VCCINT (power), E25 VCCINT (power), E28 GND (power), E31 VCCINT (power), E32 VCCINT (power), E35 GND (power), E36 TMS (in), H5 VCCINT (power), H35 VCCINT (power), J5 VCCINT (power), J35 VCCINT (power), M4 GND (power), M5 GND (power), M35 GND (power), M36 GND (power), R5 VCCINT (power), R35 VCCINT (power), T5 VCCINT (power), T35 VCCINT (power), W5 GND (power), W35 GND (power), Y3 GND (power), Y4 GND (power), Y5 GND (power), Y35 GND (power), Y36 GND (power), Y37 GND (power)
part A text: BANK 0; BANK 1
part B text: BANK 2; BANK 3
part C text: BANK 4; BANK 5
part D text: BANK 6; BANK 7